# Altium schematic symbol library SCH - ENCODER - BOURNS EAW - SHIELD.SchLib: 1 symbol
Pins are listed as number, name and electrical type; pins without a type are passive.

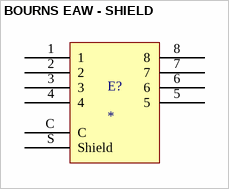
[diagram p0: symbol BOURNS EAW - SHIELD]

## BOURNS EAW - SHIELD
designator E?
pins: 1, 2, 3, 4, 5, 6, 7, 8, C, S Shield